# EAGLE library part SG1V013S1 (library 000001)
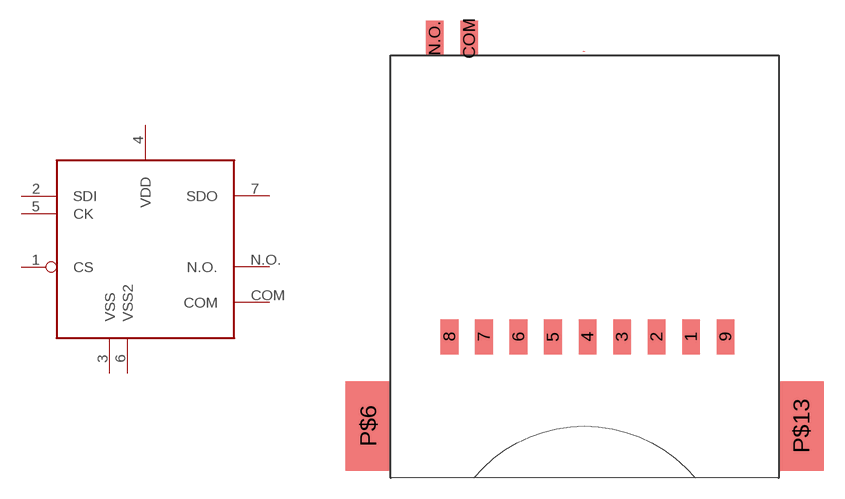
[diagram p33: symbol with the pads of SG1V013S1; footprint SG1V013S1]

Designator prefix -

## SG1V013S1  [SG1V013S1]
1  CS  in
2  SDI  in
3  VSS  pwr
4  VDD  pwr
5  CK  in
6  VSS2  pwr
7  SDO  out
COM  COM
N.O.  N.O.

## Footprint SG1V013S1 (pad centres in mm)
smd 1.27 x 2.54: 1 21.666,10.185; 2 19.177,10.185; 3 16.688,10.185; 4 14.199,10.185; 5 11.709,10.185; 6 9.22,10.185; 7 6.731,10.185; 8 4.242,10.185; 9 24.155,10.185; COM 5.664,31.725; N.O. 3.175,31.725
smd 3.251 x 6.452: P$6 -1.626,3.759; P$13 29.616,3.759